# Altium schematic symbol library 74lvc1g08.SchLib: 1 symbol
Pins are listed as number, name and electrical type; pins without a type are passive.

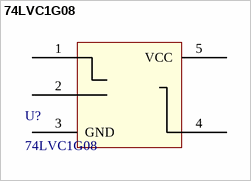
[diagram p0: symbol 74LVC1G08]

## 74LVC1G08
designator U?
pins: 1 B, 2 A, 3 GND, 4 Y, 5 VCC